# EAGLE library part USBLC6-2SC6 (library habexpico8)
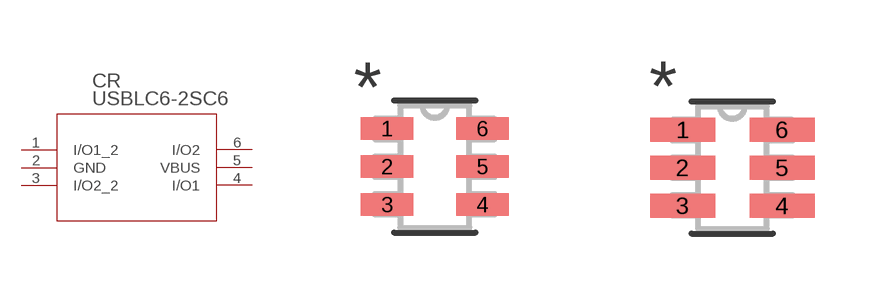
[diagram p5: symbol with the pads of SOT23-6L; footprints SOT23-6L, SOT23-6L-M]

Designator prefix CR

## USBLC6-2SC6 (MANUFACTURER_PART_NUMBER: USBLC62SC6; VENDOR: ST Microelectronics)  [SOT23-6L]
1  I/O1_2
2  GND  pwr
3  I/O2_2
4  I/O1
5  VBUS  pwr
6  I/O2

## USBLC6-2SC6SOT23-6L-M (MANUFACTURER_PART_NUMBER: USBLC62SC6; VENDOR: ST Microelectronics)  [SOT23-6L-M]
Pads as for SOT23-6L

## USBLC6-2SC6SOT23-6L-L (MANUFACTURER_PART_NUMBER: USBLC62SC6; VENDOR: ST Microelectronics)  [SOT23-6L-L]
Pads as for SOT23-6L

## Footprint SOT23-6L (pad centres in mm)
smd 1.321 x 0.559: 1 -1.194,0.95; 2 -1.194,0; 3 -1.194,-0.95; 4 1.194,-0.95; 5 1.194,0; 6 1.194,0.95

## Footprint SOT23-6L-M (pad centres in mm)
smd 1.626 x 0.61: 1 -1.245,0.95; 2 -1.245,0; 3 -1.245,-0.95; 4 1.245,-0.95; 5 1.245,0; 6 1.245,0.95

## Footprint SOT23-6L-L (pad centres in mm)
smd 1.016 x 0.508: 1 -1.143,0.95; 2 -1.143,0; 3 -1.143,-0.95; 4 1.143,-0.95; 5 1.143,0; 6 1.143,0.95